# Altium footprint library SM_8-TSSOP_EP.PcbLib: 1 footprints
Each footprint in its own frame and in the unit in brackets; x right, y up, seen from the top. Pads: shape width x height; smd on the part's side, far side on the other; paste and mask are expansions set on the pad; w line width, h text height; cw(c..) or ccw(c..) is an arc to the next point about the centre after c.
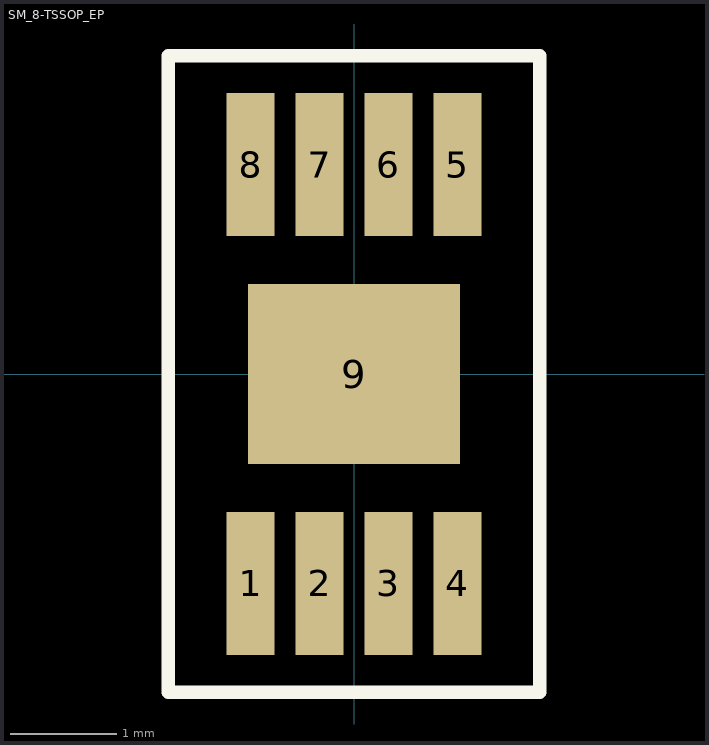
[diagram p0: the footprint, top view; thin cyan lines are the x and y axes]

## SM_8-TSSOP_EP [mm]
pads (9):
  rect 0.45x1.35 smd mask+0.076: 1(-0.975,-1.975) 2(-0.325,-1.975) 3(0.325,-1.975) 4(0.975,-1.975) 5(0.975,1.975) 6(0.325,1.975) 7(-0.325,1.975) 8(-0.975,1.975)
  rect 2x1.7 smd: 9(0,0)
Top Overlay:
  lines w0.127: -1.75,-3 -1.75,3 -1,3 1.75,3 1.75,-3 -1.75,-3
Mechanical 15:
  lines w0.076: -0.5,0 0.5,0 ; 0,-0.5 0,0.5 ; -1.75,-3 1.75,-3 1.75,3 -1.75,3 -1.75,-3
3D body "User Library-TSSOP-8 3_1x3_1.STEP": height 1.09, standoff -0.01, extent -1.55,-2.5 1.55,2.5